# EAGLE library part 1X10 (library Jordi)
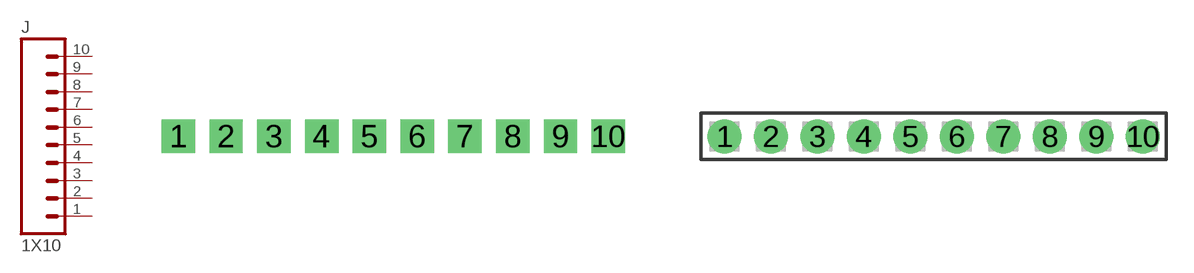
[diagram p37: symbol with the pads of CASTELLATION-10-0.1; footprints CASTELLATION-10-0.1, F-1X10-0.1-PTH]

Designator prefix J

## 1X10CAS-0.1  [CASTELLATION-10-0.1]
1  1  pas
2  2  pas
3  3  pas
4  4  pas
5  5  pas
6  6  pas
7  7  pas
8  8  pas
9  9  pas
10  10  pas

## 1X10F-0.1-PTH  [F-1X10-0.1-PTH]
Pads as for CASTELLATION-10-0.1

## 1X10M-0.1-PTH  [M-1X10-0.1-PTH]
Pads as for CASTELLATION-10-0.1

## Footprint CASTELLATION-10-0.1 (pad centres in mm)
drill 1.016 pad 1.778 square: 1 -11.43,0; 2 -8.89,0; 3 -6.35,0; 4 -3.81,0; 5 -1.27,0; 6 1.27,0; 7 3.81,0; 8 6.35,0; 9 8.89,0; 10 11.43,0

## Footprint F-1X10-0.1-PTH (pad centres in mm)
drill 1.016 pad 1.88: 1 -11.43,0; 2 -8.89,0; 3 -6.35,0; 4 -3.81,0; 5 -1.27,0; 6 1.27,0; 7 3.81,0; 8 6.35,0; 9 8.89,0; 10 11.43,0

## Footprint M-1X10-0.1-PTH (pad centres in mm)
drill 1.016 pad 1.88: 1 -11.43,0; 2 -8.89,0; 3 -6.35,0; 4 -3.81,0; 5 -1.27,0; 6 1.27,0; 7 3.81,0; 8 6.35,0; 9 8.89,0; 10 11.43,0